# EAGLE library part TINY45 (library Jim)
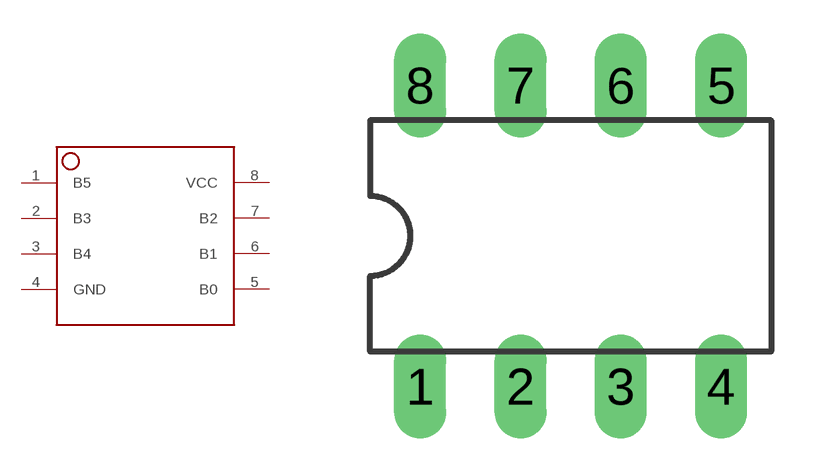
[diagram p25: symbol with the pads of DIL08; footprint DIL08]

Designator prefix -

## TINY45  [DIL08]
1  B5
2  B3
3  B4
4  GND  pwr
5  B0
6  B1
7  B2
8  VCC  pwr

## Footprint DIL08 (pad centres in mm)
Dual In Line Package
drill 0.813 long: 1 -3.81,-3.81; 2 -1.27,-3.81; 3 1.27,-3.81; 4 3.81,-3.81; 5 3.81,3.81; 6 1.27,3.81; 7 -1.27,3.81; 8 -3.81,3.81